# Altium integrated library LT1170CQ_PBF.IntLib: 1 symbol
Pins are listed as number, name and electrical type; pins without a type are passive.

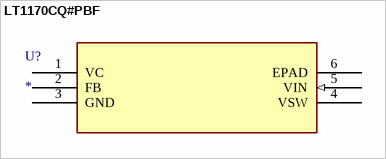
[diagram p0: symbol LT1170CQ#PBF]

## LT1170CQ#PBF
designator U?
DC/DC, 3-60VIN, 5A, 100KHZ, 5D2PAK; Primary Input Voltage:40V; No. of Outputs:1; Output Current:10A; Voltage Regulator Case Style:TO-263; No. of Pins:5; Operating Temperature Range:0°C to +100°C; MSL:-; MF: Analog Devices; MP: LT1170CQ#PBF; SnapEDA_Link: https://www.snapeda.com/parts/LT1170CQ%23PBF/Analog+Devices/view-part/?ref=snap; Package: TO-263 Linear Technology; Value: *; Check_prices: https://www.snapeda.com/parts/LT1170CQ%23PBF/Analog+Devices/view-part/?ref=eda
footprint DDPAK-5_Q
pins: 1 VC, 2 FB, 3 GND (power), 4 VSW, 5 VIN (in), 6 EPAD